# EAGLE library part 4020XLT176 (library XILINX)
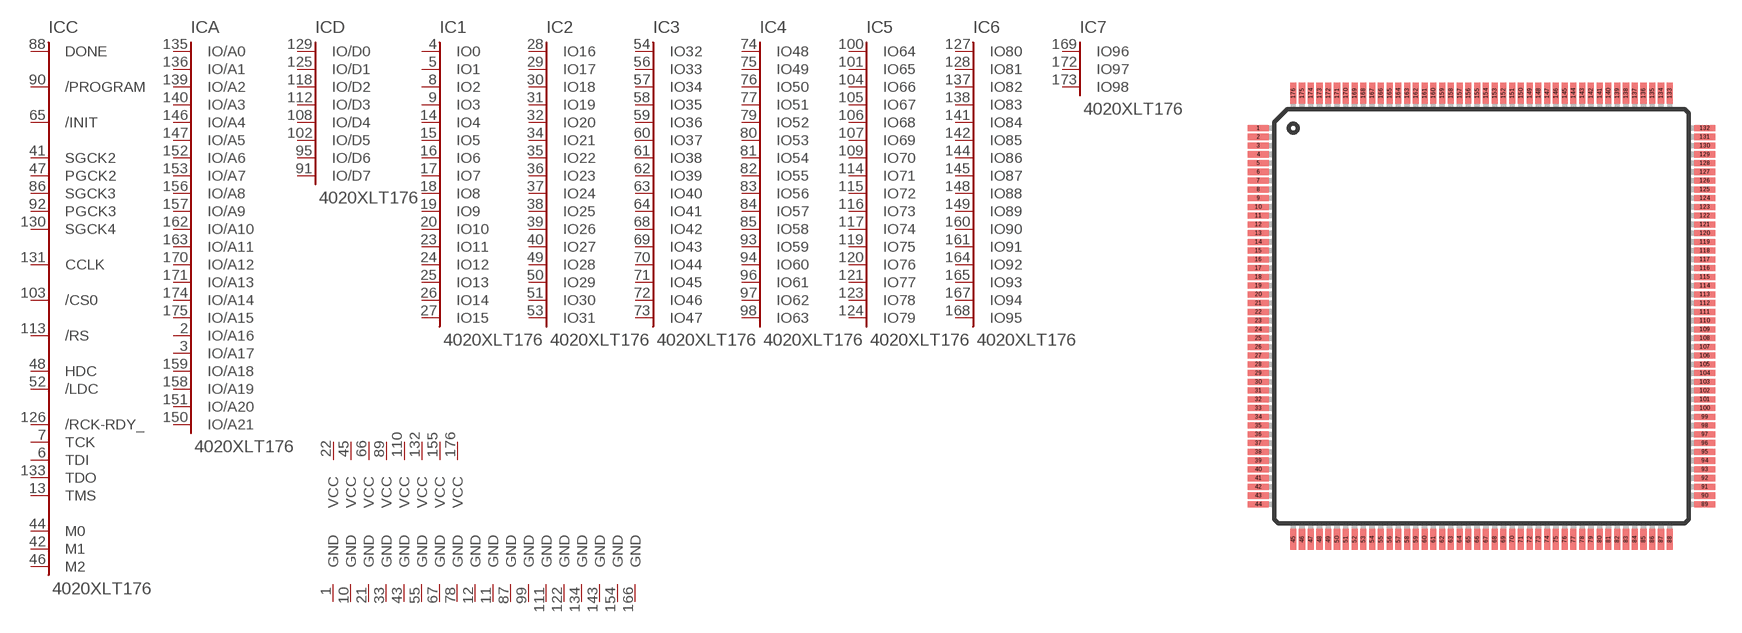
[diagram p41: symbol with the pads of TQ176; footprint TQ176]

Designator prefix IC; gates C=4003-C84 A=XC4-A D=XC4-D 1=XC4-IO16 2=XC4-IO32 3=XC4-IO48 4=XC4-IO64 5=XC4-IO80 6=XC4-IO96 V1=VCC V2=VCC V3=VCC V4=VCC V5=VCC V6=VCC V7=VCC V8=VCC G1=GND G2=GND G3=GND G4=GND G5=GND G6=GND G7=GND G8=GND G9=GND G10=GND G11=GND G12=GND G13=GND G14=GND G15=GND G16=GND G17=GND G18=GND 7=XC4-IO98

## 4020XLT176  [TQ176]
1  G1:GND  pwr
2  A:IO/A16
3  A:IO/A17
4  1:IO0
5  1:IO1
6  C:TDI
7  C:TCK
8  1:IO2
9  1:IO3
10  G2:GND  pwr
11  G10:GND  pwr
12  G9:GND  pwr
13  C:TMS
14  1:IO4
15  1:IO5
16  1:IO6
17  1:IO7
18  1:IO8
19  1:IO9
20  1:IO10
21  G3:GND  pwr
22  V1:VCC  pwr
23  1:IO11
24  1:IO12
25  1:IO13
26  1:IO14
27  1:IO15
28  2:IO16
29  2:IO17
30  2:IO18
31  2:IO19
32  2:IO20
33  G4:GND  pwr
34  2:IO21
35  2:IO22
36  2:IO23
37  2:IO24
38  2:IO25
39  2:IO26
40  2:IO27
41  C:SGCK2
42  C:M1  out
43  G5:GND  pwr
44  C:M0  in
45  V2:VCC  pwr
46  C:M2  in
47  C:PGCK2
48  C:HDC
49  2:IO28
50  2:IO29
51  2:IO30
52  C:/LDC
53  2:IO31
54  3:IO32
55  G6:GND  pwr
56  3:IO33
57  3:IO34
58  3:IO35
59  3:IO36
60  3:IO37
61  3:IO38
62  3:IO39
63  3:IO40
64  3:IO41
65  C:/INIT
66  V3:VCC  pwr
67  G7:GND  pwr
68  3:IO42
69  3:IO43
70  3:IO44
71  3:IO45
72  3:IO46
73  3:IO47
74  4:IO48
75  4:IO49
76  4:IO50
77  4:IO51
78  G8:GND  pwr
79  4:IO52
80  4:IO53
81  4:IO54
82  4:IO55
83  4:IO56
84  4:IO57
85  4:IO58
86  C:SGCK3
87  G11:GND  pwr
88  C:DONE
89  V4:VCC  pwr
90  C:/PROGRAM
91  D:IO/D7
92  C:PGCK3
93  4:IO59
94  4:IO60
95  D:IO/D6
96  4:IO61
97  4:IO62
98  4:IO63
99  G12:GND  pwr
100  5:IO64
101  5:IO65
102  D:IO/D5
103  C:/CS0
104  5:IO66
105  5:IO67
106  5:IO68
107  5:IO69
108  D:IO/D4
109  5:IO70
110  V5:VCC  pwr
111  G13:GND  pwr
112  D:IO/D3
113  C:/RS
114  5:IO71
115  5:IO72
116  5:IO73
117  5:IO74
118  D:IO/D2
119  5:IO75
120  5:IO76
121  5:IO77
122  G14:GND  pwr
123  5:IO78
124  5:IO79
125  D:IO/D1
126  C:/RCK-RDY_
127  6:IO80
128  6:IO81
129  D:IO/D0
130  C:SGCK4
131  C:CCLK
132  V6:VCC  pwr
133  C:TDO
134  G15:GND  pwr
135  A:IO/A0
136  A:IO/A1
137  6:IO82
138  6:IO83
139  A:IO/A2
140  A:IO/A3
141  6:IO84
142  6:IO85
143  G16:GND  pwr
144  6:IO86
145  6:IO87
146  A:IO/A4
147  A:IO/A5
148  6:IO88
149  6:IO89
150  A:IO/A21
151  A:IO/A20
152  A:IO/A6
153  A:IO/A7
154  G17:GND  pwr
155  V7:VCC  pwr
156  A:IO/A8
157  A:IO/A9
158  A:IO/A19
159  A:IO/A18
160  6:IO90
161  6:IO91
162  A:IO/A10
163  A:IO/A11
164  6:IO92
165  6:IO93
166  G18:GND  pwr
167  6:IO94
168  6:IO95
169  7:IO96
170  A:IO/A12
171  A:IO/A13
172  7:IO97
173  7:IO98
174  A:IO/A14
175  A:IO/A15
176  V8:VCC  pwr

## Footprint TQ176 (pad centres in mm)
smd 1.2 x 0.35: 1 -12.75,10.75; 2 -12.75,10.25; 3 -12.75,9.75; 4 -12.75,9.25; 5 -12.75,8.75; 6 -12.75,8.25; 7 -12.75,7.75; 8 -12.75,7.25; 9 -12.75,6.75; 10 -12.75,6.25; 11 -12.75,5.75; 12 -12.75,5.25; 13 -12.75,4.75; 14 -12.75,4.25; 15 -12.75,3.75; 16 -12.75,3.25; 17 -12.75,2.75; 18 -12.75,2.25; 19 -12.75,1.75; 20 -12.75,1.25; 21 -12.75,0.75; 22 -12.75,0.25; 23 -12.75,-0.25; 24 -12.75,-0.75; 25 -12.75,-1.25; 26 -12.75,-1.75; 27 -12.75,-2.25; 28 -12.75,-2.75; 29 -12.75,-3.25; 30 -12.75,-3.75; 31 -12.75,-4.25; 32 -12.75,-4.75; 33 -12.75,-5.25; 34 -12.75,-5.75; 35 -12.75,-6.25; 36 -12.75,-6.75; 37 -12.75,-7.25; 38 -12.75,-7.75; 39 -12.75,-8.25; 40 -12.75,-8.75; 41 -12.75,-9.25; 42 -12.75,-9.75; 43 -12.75,-10.25; 44 -12.75,-10.75; 89 12.75,-10.75; 90 12.75,-10.25; 91 12.75,-9.75; 92 12.75,-9.25; 93 12.75,-8.75; 94 12.75,-8.25; 95 12.75,-7.75; 96 12.75,-7.25; 97 12.75,-6.75; 98 12.75,-6.25; 99 12.75,-5.75; 100 12.75,-5.25; 101 12.75,-4.75; 102 12.75,-4.25; 103 12.75,-3.75; 104 12.75,-3.25; 105 12.75,-2.75; 106 12.75,-2.25; 107 12.75,-1.75; 108 12.75,-1.25; 109 12.75,-0.75; 110 12.75,-0.25; 111 12.75,0.25; 112 12.75,0.75; 113 12.75,1.25; 114 12.75,1.75; 115 12.75,2.25; 116 12.75,2.75; 117 12.75,3.25; 118 12.75,3.75; 119 12.75,4.25; 120 12.75,4.75; 121 12.75,5.25; 122 12.75,5.75; 123 12.75,6.25; 124 12.75,6.75; 125 12.75,7.25; 126 12.75,7.75; 127 12.75,8.25; 128 12.75,8.75; 129 12.75,9.25; 130 12.75,9.75; 131 12.75,10.25; 132 12.75,10.75
smd 0.35 x 1.2: 45 -10.75,-12.75; 46 -10.25,-12.75; 47 -9.75,-12.75; 48 -9.25,-12.75; 49 -8.75,-12.75; 50 -8.25,-12.75; 51 -7.75,-12.75; 52 -7.25,-12.75; 53 -6.75,-12.75; 54 -6.25,-12.75; 55 -5.75,-12.75; 56 -5.25,-12.75; 57 -4.75,-12.75; 58 -4.25,-12.75; 59 -3.75,-12.75; 60 -3.25,-12.75; 61 -2.75,-12.75; 62 -2.25,-12.75; 63 -1.75,-12.75; 64 -1.25,-12.75; 65 -0.75,-12.75; 66 -0.25,-12.75; 67 0.25,-12.75; 68 0.75,-12.75; 69 1.25,-12.75; 70 1.75,-12.75; 71 2.25,-12.75; 72 2.75,-12.75; 73 3.25,-12.75; 74 3.75,-12.75; 75 4.25,-12.75; 76 4.75,-12.75; 77 5.25,-12.75; 78 5.75,-12.75; 79 6.25,-12.75; 80 6.75,-12.75; 81 7.25,-12.75; 82 7.75,-12.75; 83 8.25,-12.75; 84 8.75,-12.75; 85 9.25,-12.75; 86 9.75,-12.75; 87 10.25,-12.75; 88 10.75,-12.75; 133 10.75,12.75; 134 10.25,12.75; 135 9.75,12.75; 136 9.25,12.75; 137 8.75,12.75; 138 8.25,12.75; 139 7.75,12.75; 140 7.25,12.75; 141 6.75,12.75; 142 6.25,12.75; 143 5.75,12.75; 144 5.25,12.75; 145 4.75,12.75; 146 4.25,12.75; 147 3.75,12.75; 148 3.25,12.75; 149 2.75,12.75; 150 2.25,12.75; 151 1.75,12.75; 152 1.25,12.75; 153 0.75,12.75; 154 0.25,12.75; 155 -0.25,12.75; 156 -0.75,12.75; 157 -1.25,12.75; 158 -1.75,12.75; 159 -2.25,12.75; 160 -2.75,12.75; 161 -3.25,12.75; 162 -3.75,12.75; 163 -4.25,12.75; 164 -4.75,12.75; 165 -5.25,12.75; 166 -5.75,12.75; 167 -6.25,12.75; 168 -6.75,12.75; 169 -7.25,12.75; 170 -7.75,12.75; 171 -8.25,12.75; 172 -8.75,12.75; 173 -9.25,12.75; 174 -9.75,12.75; 175 -10.25,12.75; 176 -10.75,12.75